# Altium footprint library VL53L0X.PcbLib: 1 footprints
Each footprint in its own frame and in the unit in brackets; x right, y up, seen from the top. Pads: shape width x height; smd on the part's side, far side on the other; paste and mask are expansions set on the pad; w line width, h text height; cw(c..) or ccw(c..) is an arc to the next point about the centre after c.
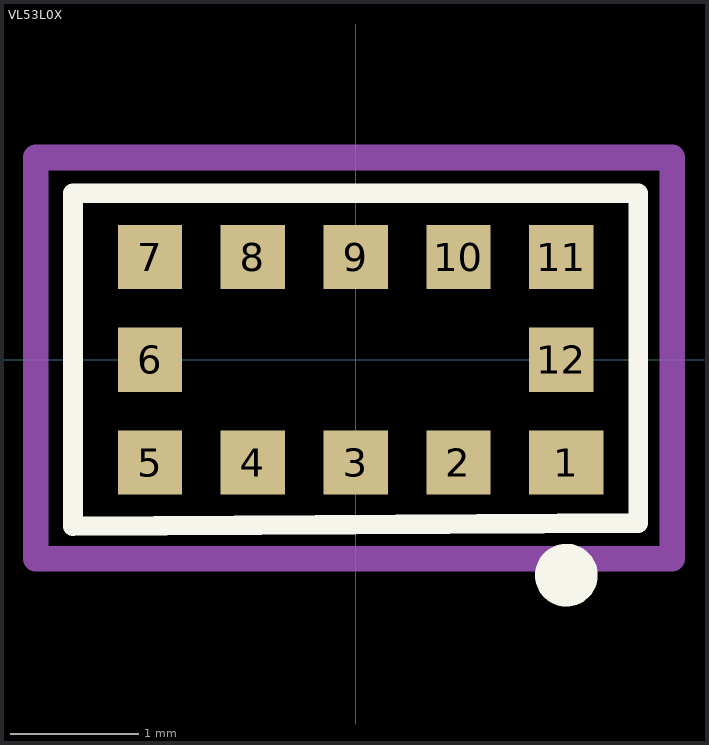
[diagram p0: the footprint, top view; thin cyan lines are the x and y axes]

## VL53L0X [mm]
pads (12):
  rect 0.58x0.5 smd: 1(1.64,-0.8)
  rect 0.5x0.5 smd: 2(0.8,-0.8) 3(0,-0.8) 4(-0.8,-0.8) 5(-1.6,-0.8) 6(-1.6,0) 7(-1.6,0.8) 8(-0.8,0.8) 9(0,0.8) 10(0.8,0.8) 11(1.6,0.8) 12(1.6,0)
L26-Silk Screen Top (Multiple PADS layers...):
  circle w0.25: c1.64,-1.676 r0.119
  lines w0.152: -2.2,-1.295 2.2,-1.27 2.2,1.295 -2.2,1.295 -2.2,-1.27
L15 (Multiple PADS layers...):
  lines w0.2: -2.489,-1.549 2.464,-1.549 2.464,1.575 -2.489,1.575 -2.489,-1.549
3D body: height 1.1, standoff 0, extent -2.2,-1.295 2.2,1.295
3D body: height 1.11, standoff 0, extent 1.045,-0.249 1.543,0.25
3D body: height 1.11, standoff 0, extent -1.543,-0.249 -1.045,0.25
3D body: height 3.72, standoff -3.72, extent -2.2,1.295 -2.2,1.295